# Altium footprint library blum_SumoBRD_ECEN2440F24.PcbLib: 17 footprints (part 1 of 2)
Each footprint in its own frame and in the unit in brackets; x right, y up, seen from the top. Pads: shape width x height; smd on the part's side, far side on the other; paste and mask are expansions set on the pad; w line width, h text height; cw(c..) or ccw(c..) is an arc to the next point about the centre after c.
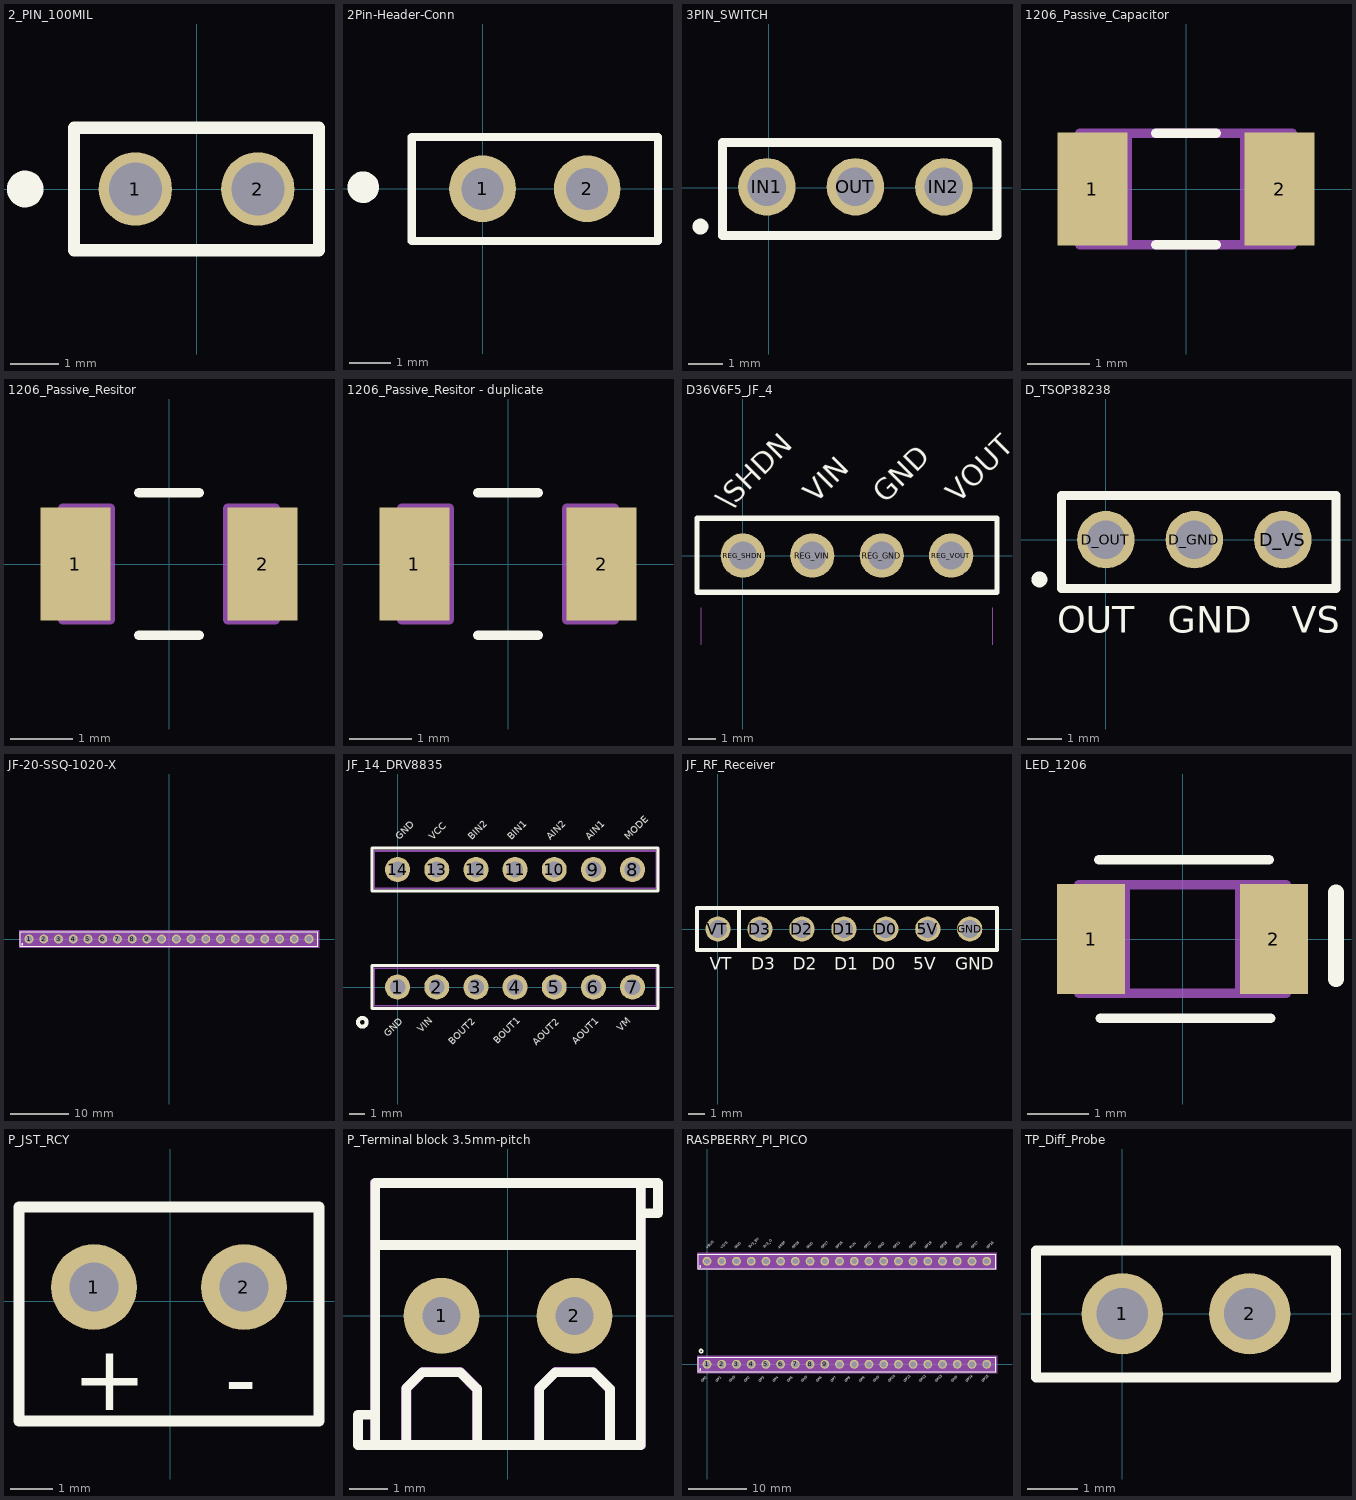
[diagram p0: the footprints below, top view; thin cyan lines are the x and y axes]

## 2_PIN_100MIL [mil]
pads (2):
  round 60 hole 43.31: 1(-50,0) 2(50,0)
Top Overlay:
  circle w20: c-140,0 r5
  lines w10: -100,-50 -100,0 -100,50 0,50 100,50 100,-50 0,-50 -100,-50
3D body "Header, Male, 2.54mm, 1x2.STEP": height 336.22, standoff -118.11, extent -100,-49.99 100,50.01

## 2Pin-Header-Conn [mm]
pads (2):
  round 1.62 hole 1.02: 1(0,0) 2(2.54,0)
Top Overlay:
  circle w0.508: c-2.898,0.04 r0.127
  lines w0.2: -1.72,-1.27 -1.72,1.261 4.26,1.261 4.26,-1.27 -1.72,-1.27
Top Solder:
  circle w0: c0,0 r0.861
  circle w0: c2.54,0 r0.861
Bottom Solder:
  circle w0: c0,0 r0.861
  circle w0: c2.54,0 r0.861
3D body "2Pin_C01DAAN.STEP": height 8.13, standoff -3.3, extent -1.27,-1.27 3.81,1.27

## 3PIN_SWITCH [mm] "3 pin male header"
pads (3):
  round 1.65 hole 1.1: IN1(-0.051,0.025) IN2(5.029,0.025) OUT(2.489,0.025)
Top Overlay:
  circle w0.254: c-1.956,-1.116 r0.1
  lines w0.254: -1.321,-1.372 -1.321,1.295 6.553,1.295 6.553,-1.372 -1.321,-1.372
3D body "3Pin_PREC003SAAN-RC.STEP": height 8.38, standoff -3.05, extent -1.194,-1.245 6.426,1.295

## 1206_Passive_Capacitor [mil]
pads (2):
  rect 44x71 smd: 1(-59,0) 2(59,0)
Top Overlay:
  lines w6: -19,-35 19,-35 ; -19,35 19,35
Mechanical 4:
  lines w6: -67,-35 -37,-35 ; -67,-35 -67,35 ; -67,-35 -37,-35 ; -67,-35 -67,35 ; -67,35 -37,35 ; -67,35 -37,35 ; -37,-35 -37,35 ; -37,-35 37,-35 ; -37,-35 -37,35 ; -37,-35 37,-35 ; -37,35 37,35 ; -37,35 37,35 ; 37,-35 37,35 ; 37,-35 67,-35 ; 37,-35 37,35 ; 37,-35 67,-35 ; 37,35 67,35 ; 37,35 67,35 ; 67,-35 67,35 ; 67,-35 67,35
3D body "Capacitor_1206.STEP": height 49.61, standoff 0.39, extent -62.99,-31.49 63,31.5

## 1206_Passive_Resitor [mil]
pads (2):
  rect 44x71 smd: 1(-59,0) 2(59,0)
Top Overlay:
  lines w6: -19,-44.88 19,-44.88 ; -19,44.88 19,44.88
Mechanical 4:
  lines w6: -67,-35 -67,35 ; -67,-35 -37,-35 ; -67,-35 -67,35 ; -67,-35 -37,-35 ; -67,35 -37,35 ; -67,35 -37,35 ; -37,-35 -37,35 ; -37,-35 -37,35 ; 37,-35 67,-35 ; 37,-35 37,35 ; 37,-35 67,-35 ; 37,-35 37,35 ; 37,35 67,35 ; 37,35 67,35 ; 67,-35 67,35 ; 67,-35 67,35
3D body "Res_1206.STEP": height 25.59, standoff 0, extent -61.02,-30.51 61.03,30.52

## 1206_Passive_Resitor - duplicate [mil]
pads (2):
  rect 44x71 smd: 1(-59,0) 2(59,0)
Top Overlay:
  lines w6: -19,-44.88 19,-44.88 ; -19,44.88 19,44.88
Mechanical 4:
  lines w6: -67,-35 -37,-35 ; -67,-35 -67,35 ; -67,-35 -37,-35 ; -67,-35 -67,35 ; -67,35 -37,35 ; -67,35 -37,35 ; -37,-35 -37,35 ; -37,-35 -37,35 ; 37,-35 37,35 ; 37,-35 67,-35 ; 37,-35 37,35 ; 37,-35 67,-35 ; 37,35 67,35 ; 37,35 67,35 ; 67,-35 67,35 ; 67,-35 67,35
3D body "Res_1206.STEP": height 25.59, standoff 0, extent -61.02,-30.51 61.03,30.52

## D36V6F5_JF_4 [mm]
pads (4):
  round 1.62 hole 1.02: REG_GND(5.08,0) REG_SHDN(0,0) REG_VIN(2.54,0) REG_VOUT(7.62,0)
Top Overlay:
  lines w0.2: -1.676,-1.346 -1.676,1.372 9.296,1.372 9.296,-1.346 -1.676,-1.346
  text "VOUT" at 7.874,1.883 h0.76
  text "VIN" at 2.667,1.883 h0.76
  text "\SHDN" at -0.508,1.629 h0.76
  text "GND" at 5.207,1.883 h0.76
Top Solder:
  circle w0: c0,0 r0.861
  circle w0: c2.54,0 r0.861
  circle w0: c5.08,0 r0.861
  circle w0: c7.62,0 r0.861
Bottom Solder:
  circle w0: c0,0 r0.861
  circle w0: c2.54,0 r0.861
  circle w0: c5.08,0 r0.861
  circle w0: c7.62,0 r0.861
Mechanical 16:
  lines w0.1: -0.394,-0.394 0.394,-0.394 0.394,0.394 -0.394,0.394 -0.394,-0.394 ; 2.146,-0.394 2.934,-0.394 2.934,0.394 2.146,0.394 2.146,-0.394 ; 4.686,-0.394 5.474,-0.394 5.474,0.394 4.686,0.394 4.686,-0.394 ; 7.226,-0.394 8.014,-0.394 8.014,0.394 7.226,0.394 7.226,-0.394
Mechanical40:
  lines w0: -1.524,-3.261 -1.524,-1.908 ; 9.144,-3.261 9.144,-1.908
3D body "step-down-voltage-regulator-d24v3fx-d24v6fx-d36v6fx.step": height 2.82, standoff 0, extent -1.27,-11.557 8.89,1.143

## D_TSOP38238 [mm]
pads (3):
  round 1.65 hole 1.1: D_GND(2.54,0) D_OUT(0,0) D_VS(5.08,0)
Top Overlay:
  circle w0.254: c-1.905,-1.142 r0.1
  lines w0.254: -1.27,-1.397 -1.27,1.27 6.604,1.27 6.604,-1.397 -1.27,-1.397
  text "OUT" at -1.397,-2.667 h0.76
  text "VS" at 5.334,-2.667 h0.76
  text "GND" at 1.778,-2.667 h0.76
3D body "3Pin_PREC003SAAN-RC.STEP": height 8.38, standoff -3.05, extent -1.143,-1.27 6.477,1.27

## JF-20-SSQ-1020-X [mm]
pads (20):
  round 1.53 hole 1.02: 1(-24.13,0) 2(-21.59,0) 3(-19.05,0) 4(-16.51,0) 5(-13.97,0) 6(-11.43,0) 7(-8.89,0) 8(-6.35,0) 9(-3.81,0) 10(-1.27,0) 11(1.27,0) 12(3.81,0) 13(6.35,0) 14(8.89,0) 15(11.43,0) 16(13.97,0) 17(16.51,0) 18(19.05,0) 19(21.59,0) 20(24.13,0)
Top Overlay:
  circle w0.127: c-25.3,-0.9 r0.1
  lines w0.127: -25.65,-1.25 -25.65,1.25 25.65,1.25 25.65,-1.25 -25.65,-1.25
Mechanical 16:
  region: -25.86,1.5 25.86,1.5 25.86,-1.5 -25.86,-1.5

## JF_14_DRV8835 [mm]
pads (14):
  round 1.62 hole 1.02: 1(0,0) 2(2.54,0) 3(5.08,0) 4(7.62,0) 5(10.16,0) 6(12.7,0) 7(15.24,0) 8(15.24,7.62) 9(12.7,7.62) 10(10.16,7.62) 11(7.62,7.62) 12(5.08,7.62) 13(2.54,7.62) 14(0,7.62)
Top Overlay:
  circle w0.254: c-2.286,-2.286 r0.284
  lines w0.2: -1.651,-1.397 -1.651,1.397 16.891,1.397 16.891,-1.397 -1.651,-1.397 ; -1.651,6.223 -1.651,9.017 16.891,9.017 16.891,6.223 -1.651,6.223
  text "GND" at 0.248,9.404 h0.76
  text "AIN2" at 10.033,9.398 h0.76
  text "AIN1" at 12.573,9.398 h0.76
  text "MODE" at 15.107,9.404 h0.76
  text "VCC" at 2.408,9.404 h0.76
  text "BIN2" at 4.953,9.398 h0.76
  text "BIN1" at 7.493,9.398 h0.76
  text "VIN" at 1.651,-3.107 h0.76
  text "GND" at -0.514,-3.37 h0.76
  text "AOUT2" at 9.138,-3.931 h0.76
  text "AOUT1" at 11.678,-3.868 h0.76
  text "BOUT2" at 3.677,-3.895 h0.76
  text "BOUT1" at 6.598,-3.832 h0.76
  text "VM" at 14.605,-3.029 h0.76
Top Solder:
  circle w0: c0,0 r0.861
  circle w0: c2.54,0 r0.861
  circle w0: c5.08,0 r0.861
  circle w0: c7.62,0 r0.861
  circle w0: c10.16,0 r0.861
  circle w0: c12.7,0 r0.861
  circle w0: c15.24,0 r0.861
  circle w0: c0,7.62 r0.861
  circle w0: c2.54,7.62 r0.861
  circle w0: c5.08,7.62 r0.861
  circle w0: c7.62,7.62 r0.861
  circle w0: c10.16,7.62 r0.861
  circle w0: c12.7,7.62 r0.861
  circle w0: c15.24,7.62 r0.861
Bottom Solder:
  circle w0: c0,0 r0.861
  circle w0: c2.54,0 r0.861
  circle w0: c5.08,0 r0.861
  circle w0: c7.62,0 r0.861
  circle w0: c10.16,0 r0.861
  circle w0: c12.7,0 r0.861
  circle w0: c15.24,0 r0.861
  circle w0: c0,7.62 r0.861
  circle w0: c2.54,7.62 r0.861
  circle w0: c5.08,7.62 r0.861
  circle w0: c7.62,7.62 r0.861
  circle w0: c10.16,7.62 r0.861
  circle w0: c12.7,7.62 r0.861
  circle w0: c15.24,7.62 r0.861
Mechanical 16:
  lines w0.1: -1.524,-1.206 -1.524,1.206 1.27,1.206 3.81,1.206 6.35,1.206 8.89,1.206 11.43,1.206 13.97,1.206 16.764,1.206 16.764,-1.206 13.97,-1.206 11.43,-1.206 8.89,-1.206 6.35,-1.206 3.81,-1.206 1.27,-1.206 -1.524,-1.206 ; -1.524,6.414 -1.524,8.826 1.27,8.826 3.81,8.826 6.35,8.826 8.89,8.826 11.43,8.826 13.97,8.826 16.764,8.826 16.764,6.414 13.97,6.414 11.43,6.414 8.89,6.414 6.35,6.414 3.81,6.414 1.27,6.414 -1.524,6.414 ; -0.394,-0.394 0.394,-0.394 0.394,0.394 -0.394,0.394 -0.394,-0.394 ; -0.394,7.226 0.394,7.226 0.394,8.014 -0.394,8.014 -0.394,7.226 ; 2.146,-0.394 2.934,-0.394 2.934,0.394 2.146,0.394 2.146,-0.394 ; 2.146,7.226 2.934,7.226 2.934,8.014 2.146,8.014 2.146,7.226 ; 4.686,-0.394 5.474,-0.394 5.474,0.394 4.686,0.394 4.686,-0.394 ; 4.686,7.226 5.474,7.226 5.474,8.014 4.686,8.014 4.686,7.226 ; 7.226,-0.394 8.014,-0.394 8.014,0.394 7.226,0.394 7.226,-0.394 ; 7.226,7.226 8.014,7.226 8.014,8.014 7.226,8.014 7.226,7.226 ; 9.766,-0.394 10.554,-0.394 10.554,0.394 9.766,0.394 9.766,-0.394 ; 9.766,7.226 10.554,7.226 10.554,8.014 9.766,8.014 9.766,7.226 ; 12.306,-0.394 13.094,-0.394 13.094,0.394 12.306,0.394 12.306,-0.394 ; 12.306,7.226 13.094,7.226 13.094,8.014 12.306,8.014 12.306,7.226 ; 14.846,-0.394 15.634,-0.394 15.634,0.394 14.846,0.394 14.846,-0.394 ; 14.846,7.226 15.634,7.226 15.634,8.014 14.846,8.014 14.846,7.226
3D body "drv8835-dual-motor-driver-carrier.step": height 2.82, standoff 0, extent -1.143,-1.397 16.637,8.763

## JF_RF_Receiver [mil] "7 pin female header"
pads (7):
  round 60 hole 43.31: 5V(500,0) D0(400,0) D1(300,0) D2(200,0) D3(100,0) GND(600,0) VT(0,0)
Top Overlay:
  lines w10: 50,-50 50,50 ; -50,-50 665,-50 665,50 -50,50 -50,-50
  text "D0" at 366.67,-97.44 h30
  text "D1" at 277.5,-97.44 h30
  text "D2" at 178.33,-97.44 h30
  text "D3" at 79.17,-97.44 h30
  text "VT" at -20,-97.44 h30
  text "5V" at 465.83,-97.44 h30
  text "GND" at 565,-97.44 h30

## LED_1206 [mil]
pads (2):
  rect 44x71 smd: 1(-59,0) 2(59,0)
Top Overlay:
  lines w6: -54,51.18 56,51.18 ; -53,-51.18 57,-51.18
  lines w10: 99,-26 99,30
Mechanical 4:
  lines w6: -67,-35 -37,-35 ; -67,-35 -67,35 ; -67,-35 -37,-35 ; -67,-35 -67,35 ; -67,35 -37,35 ; -67,35 -37,35 ; -37,-35 -37,35 ; -37,-35 37,-35 ; -37,-35 -37,35 ; -37,-35 37,-35 ; -37,35 37,35 ; -37,35 37,35 ; 37,-35 37,35 ; 37,-35 67,-35 ; 37,-35 37,35 ; 37,-35 67,-35 ; 37,35 67,35 ; 37,35 67,35 ; 67,-35 67,35 ; 67,-35 67,35
3D body "598-8220-107F.STEP": height 27.56, standoff 0, extent -62.99,-31.5 62.99,31.5

## P_JST_RCY [mil] "JST RCY"
pads (2):
  round 78.74 hole 45: 1(-69.9,13) 2(67.9,13)
Top Overlay:
  lines w10: -138.79,-110 136.81,-110 136.81,86.57 -138.79,86.57 -138.79,-110
  text "+" at -90,-100 h60
  text "-" at 50,-99.99 h60

## P_Terminal block 3.5mm-pitch [mm]
pads (2):
  round 2 hole 1: 1(-1.75,0) 2(1.75,0)
Top Overlay:
  lines w0.254: -3.5,-2.6 -3.95,-2.6 -3.95,-3.4 -3.5,-3.4 ; -3.5,1.869 3.5,1.869 ; -2.68,-3.4 -2.68,-1.911 -2.25,-1.48 -1.26,-1.48 -0.814,-1.926 -0.814,-3.4 ; 0.819,-3.4 0.819,-1.911 1.25,-1.48 2.24,-1.48 2.686,-1.926 2.686,-3.4 ; 3.5,2.7 3.95,2.7 3.95,3.5 3.5,3.5 ; -3.5,-3.4 -3.5,3.5 3.5,3.5 ; -3.5,-3.4 3.5,-3.4 3.5,3.5
Mechanical 15:
  region: -3.627,-3.4 -3.627,3.5 -3.627,3.553 -3.553,3.627 -3.447,3.627 -3.373,3.553 -3.373,3.5 -3.373,-3.4 -3.373,-3.453 -3.447,-3.527 -3.553,-3.527 -3.627,-3.453
  region: 3.627,3.5 3.627,-3.4 3.627,-3.453 3.553,-3.527 3.448,-3.527 3.373,-3.453 3.373,-3.4 3.373,3.5 3.373,3.553 3.448,3.627 3.553,3.627 3.627,3.553
  region: 3.5,3.373 -3.5,3.373 -3.553,3.373 -3.627,3.447 -3.627,3.553 -3.553,3.627 -3.5,3.627 3.5,3.627 3.553,3.627 3.627,3.553 3.627,3.447 3.553,3.373
  region: -3.5,-3.273 3.5,-3.273 3.553,-3.273 3.627,-3.347 3.627,-3.453 3.553,-3.527 3.5,-3.527 -3.5,-3.527 -3.553,-3.527 -3.627,-3.453 -3.627,-3.347 -3.553,-3.273
  region: 0.692,-3.4 0.692,-1.911 0.692,-1.898 0.697,-1.874 0.707,-1.85 0.721,-1.83 0.73,-1.821 1.16,-1.39 1.169,-1.381 1.19,-1.367 1.213,-1.358 1.237,-1.353 1.25,-1.353 2.24,-1.353 2.252,-1.353 2.277,-1.358 2.3,-1.367 2.321,-1.381 2.33,-1.39 2.776,-1.836 2.785,-1.845 2.799,-1.866 2.808,-1.889 2.813,-1.914 2.813,-1.926 2.813,-3.4 2.813,-3.453 2.739,-3.527 2.634,-3.527 2.559,-3.453 2.559,-3.4 2.559,-1.979 2.187,-1.607 1.303,-1.607 0.946,-1.963 0.946,-3.4 0.946,-3.453 0.872,-3.527 0.767,-3.527 0.692,-3.453
  region: -2.808,-3.4 -2.808,-1.911 -2.808,-1.898 -2.803,-1.874 -2.793,-1.85 -2.779,-1.83 -2.77,-1.821 -2.34,-1.39 -2.331,-1.381 -2.31,-1.367 -2.287,-1.358 -2.262,-1.353 -2.25,-1.353 -1.26,-1.353 -1.247,-1.353 -1.223,-1.358 -1.2,-1.367 -1.179,-1.381 -1.17,-1.39 -0.724,-1.836 -0.715,-1.845 -0.701,-1.866 -0.692,-1.889 -0.687,-1.914 -0.687,-1.926 -0.687,-3.4 -0.687,-3.453 -0.761,-3.527 -0.866,-3.527 -0.941,-3.453 -0.941,-3.4 -0.941,-1.979 -1.313,-1.607 -2.197,-1.607 -2.554,-1.963 -2.554,-3.4 -2.554,-3.453 -2.628,-3.527 -2.733,-3.527 -2.808,-3.453
3D body "2445P Screw Terminal Block- 2 Pin, 3.5mm Pitch.STEP": height 8.4, standoff -3.49, extent -3.5,-3.4 3.5,3.4

## RASPBERRY_PI_PICO [mm]
pads (40):
  round 1.53 hole 1.02: 1(0,0) 2(2.54,0) 3(5.08,0) 4(7.62,0) 5(10.16,0) 6(12.7,0) 7(15.24,0) 8(17.78,0) 9(20.32,0) 10(22.86,0) 11(25.4,0) 12(27.94,0) 13(30.48,0) 14(33.02,0) 15(35.56,0) 16(38.1,0) 17(40.64,0) 18(43.18,0) 19(45.72,0) 20(48.26,0) 21(48.26,17.78) 22(45.72,17.78) 23(43.18,17.78) 24(40.64,17.78) 25(38.1,17.78) 26(35.56,17.78) 27(33.02,17.78) 28(30.48,17.78) 29(27.94,17.78) 30(25.4,17.78) 31(22.86,17.78) 32(20.32,17.78) 33(17.78,17.78) 34(15.24,17.78) 35(12.7,17.78) 36(10.16,17.78) 37(7.62,17.78) 38(5.08,17.78) 39(2.54,17.78) 40(0,17.78)
Top Overlay:
  circle w0.254: c-1.016,2.286 r0.284
  circle w0.127: c-1.17,16.88 r0.1
  circle w0.127: c-1.17,-0.9 r0.1
  lines w0.127: -1.52,-1.25 -1.52,1.25 49.78,1.25 49.78,-1.25 -1.52,-1.25 ; -1.52,16.53 -1.52,19.03 49.78,19.03 49.78,16.53 -1.52,16.53
  text "GP0" at -0.641,-3.236 h0.76
  text "GP1" at 1.82,-3.236 h0.76
  text "GND" at 4.216,-3.236 h0.76
  text "GP2" at 6.78,-3.236 h0.76
  text "GP3" at 9.239,-3.236 h0.76
  text "GP4" at 11.701,-3.236 h0.76
  text "GP5" at 14.162,-3.236 h0.76
  text "GND" at 16.626,-3.236 h0.76
  text "GP6" at 19.191,-3.236 h0.76
  text "GP7" at 21.653,-3.236 h0.76
  text "GP8" at 24.115,-3.236 h0.76
  text "GP9" at 26.578,-3.236 h0.76
  text "GND" at 29.04,-3.236 h0.76
  text "GP10" at 31.605,-3.236 h0.76
  text "GP11" at 34.334,-3.236 h0.76
  text "GP12" at 36.997,-3.236 h0.76
  text "GP13" at 39.723,-3.236 h0.76
  text "GND" at 42.453,-3.236 h0.76
  text "GP14" at 45.018,-3.236 h0.76
  text "GP15" at 47.746,-3.236 h0.76
  text "VBUS" at 0.249,19.751 h0.76
  text "VSYS" at 2.71,19.751 h0.76
  text "GND" at 5.105,19.751 h0.76
  text "3V3_EN" at 7.58,19.84 h0.76
  text "3V3_O" at 10.038,19.84 h0.76
  text "AREF" at 12.596,19.745 h0.76
  text "GP28" at 15.051,19.751 h0.76
  text "GND" at 17.515,19.751 h0.76
  text "GP27" at 20.08,19.751 h0.76
  text "GP26" at 22.542,19.751 h0.76
  text "RUN" at 25.004,19.751 h0.76
  text "GP22" at 27.467,19.751 h0.76
  text "GND" at 29.929,19.751 h0.76
  text "GP21" at 32.494,19.751 h0.76
  text "GP20" at 35.223,19.751 h0.76
  text "GP19" at 37.886,19.751 h0.76
  text "GP18" at 40.612,19.751 h0.76
  text "GND" at 43.342,19.751 h0.76
  text "GP17" at 45.907,19.751 h0.76
  text "GP16" at 48.635,19.751 h0.76
Mechanical 16:
  region: -1.682,1.5 50.038,1.5 50.038,-1.5 -1.682,-1.5
  region: -1.73,19.28 49.99,19.28 49.99,16.28 -1.73,16.28

## TP_Diff_Probe [mm]
pads (2):
  round 1.62 hole 1.02: 1(0,0) 2(2.54,0)
Top Overlay:
  lines w0.2: -1.72,-1.27 3.556,-1.27 4.26,-1.27 4.26,1.261 -1.72,1.261 -1.72,-1.27
Top Solder:
  circle w0: c2.54,0 r0.861
  circle w0: c0,0 r0.861
Bottom Solder:
  circle w0: c2.54,0 r0.861
  circle w0: c0,0 r0.861